# EAGLE library part 2X5SMT (library jason_eagle6)
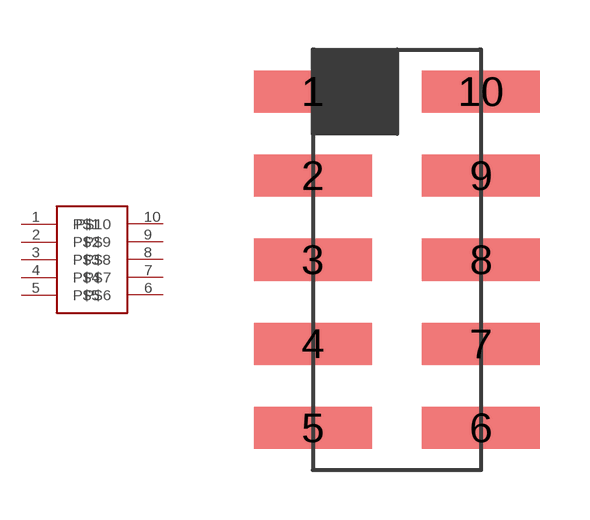
[diagram p63: symbol with the pads of 2X5SMT; footprint 2X5SMT]

Designator prefix -

## 2X5SMT  [2X5SMT]
1  P$1
2  P$2
3  P$3
4  P$4
5  P$5
6  P$6
7  P$7
8  P$8
9  P$9
10  P$10

## Footprint 2X5SMT (pad centres in mm)
smd 3.56 x 1.27: 1 -2.54,5.08; 2 -2.54,2.54; 3 -2.54,0; 4 -2.54,-2.54; 5 -2.54,-5.08; 6 2.54,-5.08; 7 2.54,-2.54; 8 2.54,0; 9 2.54,2.54; 10 2.54,5.08